# Altium footprint library 43045-0400.PcbLib: 1 footprints
Each footprint in its own frame and in the unit in brackets; x right, y up, seen from the top. Pads: shape width x height; smd on the part's side, far side on the other; paste and mask are expansions set on the pad; w line width, h text height; cw(c..) or ccw(c..) is an arc to the next point about the centre after c.
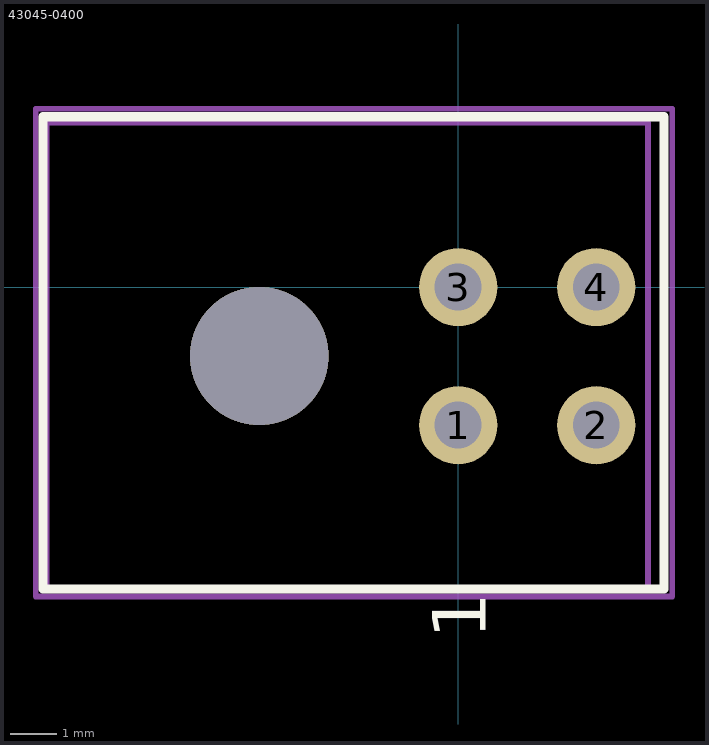
[diagram p0: the footprint, top view; thin cyan lines are the x and y axes]

## 43045-0400 [mm] "Molex Micro-Fit 3.0 2x2"
pads (4):
  round 1.7 hole 1.02: 1(0,-3) 2(3,-3) 3(0,0) 4(3,0)
via -4.32,-1.5 diameter 3 hole 3
Top Overlay:
  lines w0.2: -9.017,-6.556 4.475,-6.556 4.475,3.7 -9.017,3.7 -9.017,-6.556
  text "1" at 0.975,-7.65 h2
Top Assembly:
  lines w0.127: -8.938,-6.556 4.125,-6.556 4.125,3.575 -8.938,3.575 -8.938,-6.556
Top Courtyard:
  lines w0.127: -9.175,-6.725 4.65,-6.725 4.65,3.875 -9.175,3.875 -9.175,-6.725
3D body "430450400.stp": height 8.83, standoff -3.12, extent -8.92,-6.575 3.32,3.575